# Altium footprint library Molex Footprints.PcbLib: 498 footprints (part 9 of 32)
Each footprint in its own frame and in the unit in brackets; x right, y up, seen from the top. Pads: shape width x height; smd on the part's side, far side on the other; paste and mask are expansions set on the pad; w line width, h text height; cw(c..) or ccw(c..) is an arc to the next point about the centre after c.
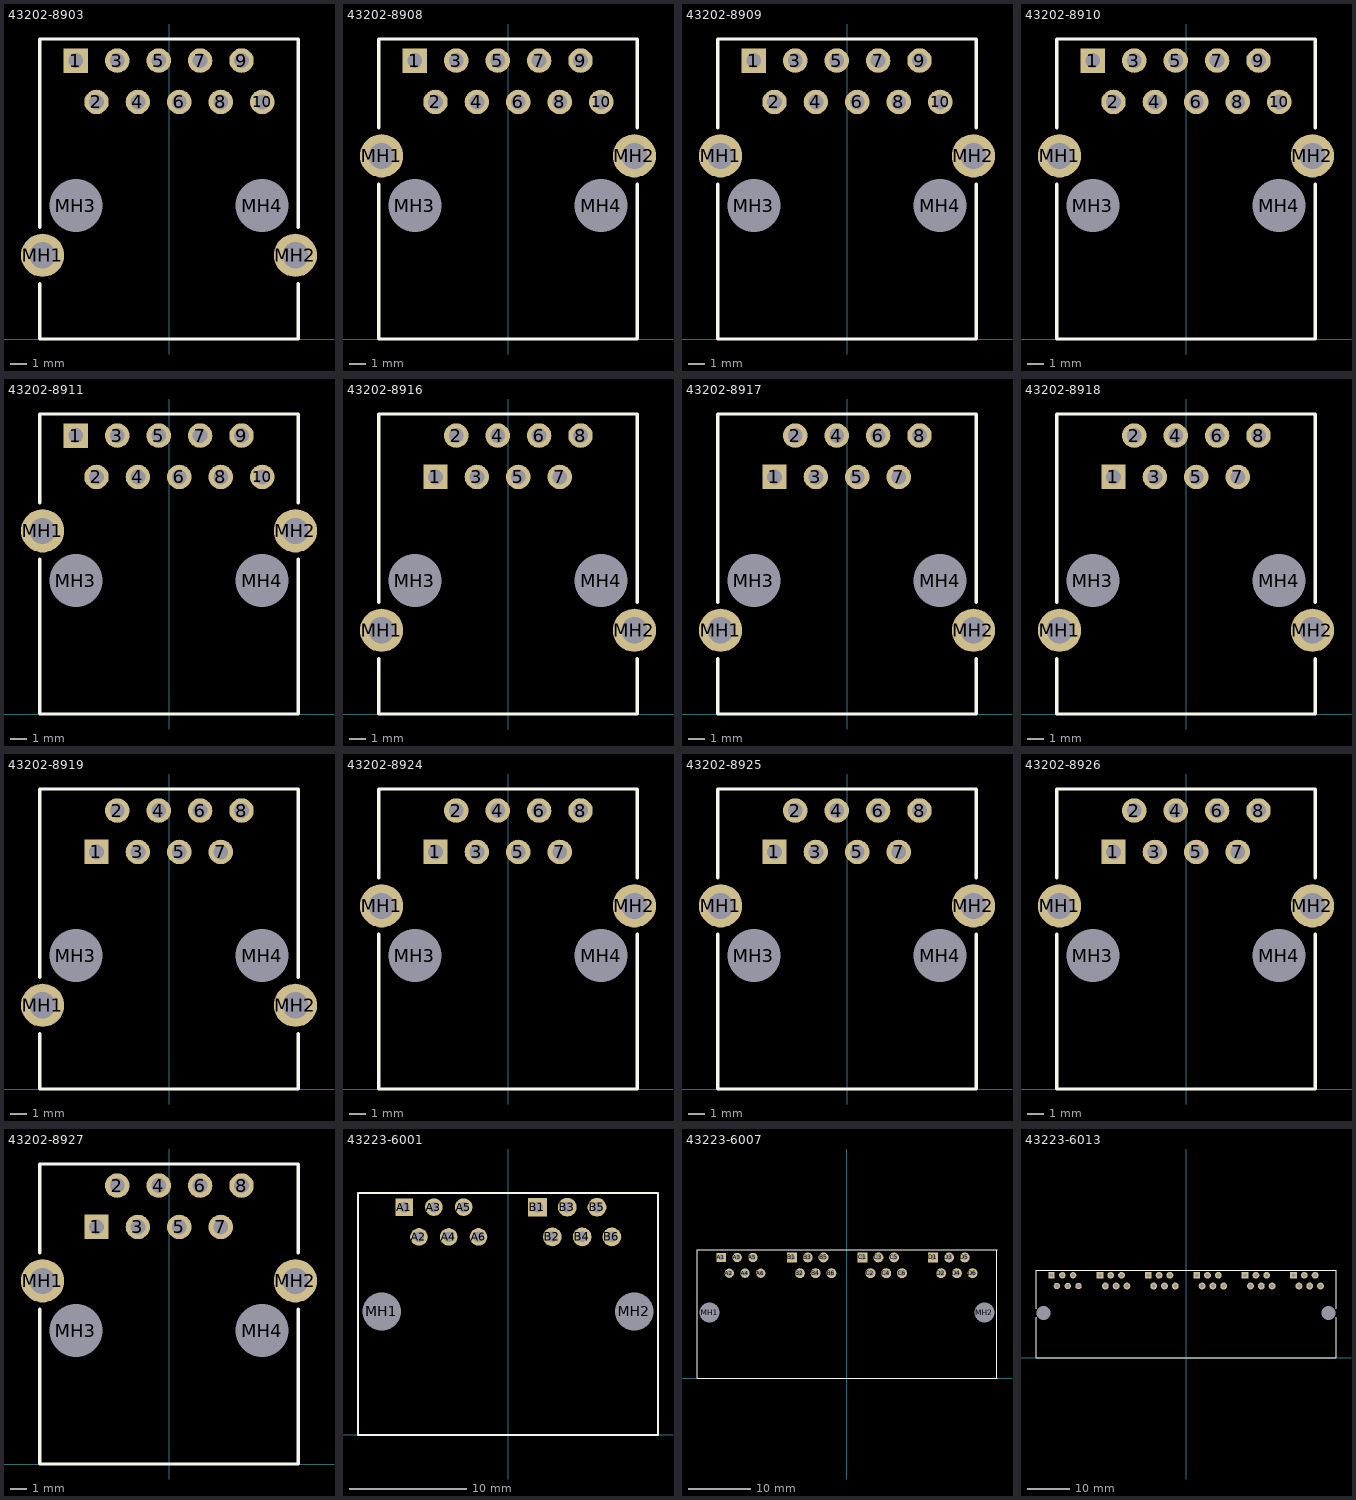
[diagram p8: the footprints below, top view; thin cyan lines are the x and y axes]

## 43202-8903 [mm] "Connector; PCB Jack, Thru-Hole; 1-Port, 8 Positions, 10 Loaded; Shielded without Lightpipes; Right Angle"
height 12.09
pads (14):
  rect 1.5x1.5 hole 0.9: 1(-5.715,17.069)
  round 1.5 hole 0.9: 2(-4.445,14.529) 3(-3.175,17.069) 4(-1.905,14.529) 5(-0.635,17.069) 6(0.635,14.529) 7(1.905,17.069) 8(3.175,14.529) 9(4.445,17.069) 10(5.715,14.529)
  round 2.65 hole 1.6: MH1(-7.747,5.131) MH2(7.747,5.131)
  round 2.95 hole 3.25 unplated: MH3(-5.715,8.179) MH4(5.715,8.179)
Top Overlay:
  lines w0.2: -7.925,3.407 -7.925,0 7.925,0 7.925,3.407 ; -7.925,6.855 -7.925,18.39 7.925,18.39 7.925,6.855

## 43202-8908 [mm] "Connector; PCB Jack, Thru-Hole; 1-Port, 8 Positions, 10 Loaded; Shielded without Lightpipes; Right Angle"
height 12.09
pads (14):
  rect 1.5x1.5 hole 0.9: 1(-5.715,17.069)
  round 1.5 hole 0.9: 2(-4.445,14.529) 3(-3.175,17.069) 4(-1.905,14.529) 5(-0.635,17.069) 6(0.635,14.529) 7(1.905,17.069) 8(3.175,14.529) 9(4.445,17.069) 10(5.715,14.529)
  round 2.65 hole 1.6: MH1(-7.747,11.227) MH2(7.747,11.227)
  round 2.95 hole 3.25 unplated: MH3(-5.715,8.179) MH4(5.715,8.179)
Top Overlay:
  lines w0.2: -7.925,9.503 -7.925,0 7.925,0 7.925,9.503 ; -7.925,12.951 -7.925,18.39 7.925,18.39 7.925,12.951

## 43202-8909 [mm] "Connector; PCB Jack, Thru-Hole; 1-Port, 8 Positions, 10 Loaded; Shielded without Lightpipes; Right Angle"
height 12.09
pads (14):
  rect 1.5x1.5 hole 0.9: 1(-5.715,17.069)
  round 1.5 hole 0.9: 2(-4.445,14.529) 3(-3.175,17.069) 4(-1.905,14.529) 5(-0.635,17.069) 6(0.635,14.529) 7(1.905,17.069) 8(3.175,14.529) 9(4.445,17.069) 10(5.715,14.529)
  round 2.65 hole 1.6: MH1(-7.747,11.227) MH2(7.747,11.227)
  round 2.95 hole 3.25 unplated: MH3(-5.715,8.179) MH4(5.715,8.179)
Top Overlay:
  lines w0.2: -7.925,9.503 -7.925,0 7.925,0 7.925,9.503 ; -7.925,12.951 -7.925,18.39 7.925,18.39 7.925,12.951

## 43202-8910 [mm] "Connector; PCB Jack, Thru-Hole; 1-Port, 8 Positions, 10 Loaded; Shielded without Lightpipes; Right Angle"
height 12.09
pads (14):
  rect 1.5x1.5 hole 0.9: 1(-5.715,17.069)
  round 1.5 hole 0.9: 2(-4.445,14.529) 3(-3.175,17.069) 4(-1.905,14.529) 5(-0.635,17.069) 6(0.635,14.529) 7(1.905,17.069) 8(3.175,14.529) 9(4.445,17.069) 10(5.715,14.529)
  round 2.65 hole 1.6: MH1(-7.747,11.227) MH2(7.747,11.227)
  round 2.95 hole 3.25 unplated: MH3(-5.715,8.179) MH4(5.715,8.179)
Top Overlay:
  lines w0.2: -7.925,9.503 -7.925,0 7.925,0 7.925,9.503 ; -7.925,12.951 -7.925,18.39 7.925,18.39 7.925,12.951

## 43202-8911 [mm] "Connector; PCB Jack, Thru-Hole; 1-Port, 8 Positions, 10 Loaded; Shielded without Lightpipes; Right Angle"
height 12.09
pads (14):
  rect 1.5x1.5 hole 0.9: 1(-5.715,17.069)
  round 1.5 hole 0.9: 2(-4.445,14.529) 3(-3.175,17.069) 4(-1.905,14.529) 5(-0.635,17.069) 6(0.635,14.529) 7(1.905,17.069) 8(3.175,14.529) 9(4.445,17.069) 10(5.715,14.529)
  round 2.65 hole 1.6: MH1(-7.747,11.227) MH2(7.747,11.227)
  round 2.95 hole 3.25 unplated: MH3(-5.715,8.179) MH4(5.715,8.179)
Top Overlay:
  lines w0.2: -7.925,9.503 -7.925,0 7.925,0 7.925,9.503 ; -7.925,12.951 -7.925,18.39 7.925,18.39 7.925,12.951

## 43202-8916 [mm] "Connector; PCB Jack, Thru-Hole; 1-Port, 8 Positions, 8 Loaded; Shielded without Lightpipes; Right Angle"
height 12.09
pads (12):
  rect 1.5x1.5 hole 0.9: 1(-4.445,14.529)
  round 1.5 hole 0.9: 2(-3.175,17.069) 3(-1.905,14.529) 4(-0.635,17.069) 5(0.635,14.529) 6(1.905,17.069) 7(3.175,14.529) 8(4.445,17.069)
  round 2.65 hole 1.6: MH1(-7.747,5.131) MH2(7.747,5.131)
  round 2.95 hole 3.25 unplated: MH3(-5.715,8.179) MH4(5.715,8.179)
Top Overlay:
  lines w0.2: -7.925,0 -7.925,3.407 ; -7.925,6.855 -7.925,18.39 7.925,18.39 7.925,6.855 ; -7.885,0 7.925,0 7.925,3.407

## 43202-8917 [mm] "Connector; PCB Jack, Thru-Hole; 1-Port, 8 Positions, 8 Loaded; Shielded without Lightpipes; Right Angle"
height 12.09
pads (12):
  rect 1.5x1.5 hole 0.9: 1(-4.445,14.529)
  round 1.5 hole 0.9: 2(-3.175,17.069) 3(-1.905,14.529) 4(-0.635,17.069) 5(0.635,14.529) 6(1.905,17.069) 7(3.175,14.529) 8(4.445,17.069)
  round 2.65 hole 1.6: MH1(-7.747,5.131) MH2(7.747,5.131)
  round 2.95 hole 3.25 unplated: MH3(-5.715,8.179) MH4(5.715,8.179)
Top Overlay:
  lines w0.2: -7.925,0 -7.925,3.407 ; -7.925,6.855 -7.925,18.39 7.925,18.39 7.925,6.855 ; -7.885,0 7.925,0 7.925,3.407

## 43202-8918 [mm] "Connector; PCB Jack, Thru-Hole; 1-Port, 8 Positions, 8 Loaded; Shielded without Lightpipes; Right Angle"
height 12.09
pads (12):
  rect 1.5x1.5 hole 0.9: 1(-4.445,14.529)
  round 1.5 hole 0.9: 2(-3.175,17.069) 3(-1.905,14.529) 4(-0.635,17.069) 5(0.635,14.529) 6(1.905,17.069) 7(3.175,14.529) 8(4.445,17.069)
  round 2.65 hole 1.6: MH1(-7.747,5.131) MH2(7.747,5.131)
  round 2.95 hole 3.25 unplated: MH3(-5.715,8.179) MH4(5.715,8.179)
Top Overlay:
  lines w0.2: -7.925,0 -7.925,3.407 ; -7.925,6.855 -7.925,18.39 7.925,18.39 7.925,6.855 ; -7.885,0 7.925,0 7.925,3.407

## 43202-8919 [mm] "Connector; PCB Jack, Thru-Hole; 1-Port, 8 Positions, 8 Loaded; Shielded without Lightpipes; Right Angle"
height 12.09
pads (12):
  rect 1.5x1.5 hole 0.9: 1(-4.445,14.529)
  round 1.5 hole 0.9: 2(-3.175,17.069) 3(-1.905,14.529) 4(-0.635,17.069) 5(0.635,14.529) 6(1.905,17.069) 7(3.175,14.529) 8(4.445,17.069)
  round 2.65 hole 1.6: MH1(-7.747,5.131) MH2(7.747,5.131)
  round 2.95 hole 3.25 unplated: MH3(-5.715,8.179) MH4(5.715,8.179)
Top Overlay:
  lines w0.2: -7.925,0 -7.925,3.407 ; -7.925,6.855 -7.925,18.39 7.925,18.39 7.925,6.855 ; -7.885,0 7.925,0 7.925,3.407

## 43202-8924 [mm] "Connector; PCB Jack, Thru-Hole; 1-Port, 8 Positions, 8 Loaded; Shielded without Lightpipes; Right Angle"
height 12.09
pads (12):
  rect 1.5x1.5 hole 0.9: 1(-4.445,14.529)
  round 1.5 hole 0.9: 2(-3.175,17.069) 3(-1.905,14.529) 4(-0.635,17.069) 5(0.635,14.529) 6(1.905,17.069) 7(3.175,14.529) 8(4.445,17.069)
  round 2.65 hole 1.6: MH1(-7.747,11.227) MH2(7.747,11.227)
  round 2.95 hole 3.25 unplated: MH3(-5.715,8.179) MH4(5.715,8.179)
Top Overlay:
  lines w0.2: -7.925,9.503 -7.925,0 7.925,0 7.925,9.503 ; -7.925,12.951 -7.925,18.39 7.925,18.39 7.925,12.951

## 43202-8925 [mm] "Connector; PCB Jack, Thru-Hole; 1-Port, 8 Positions, 8 Loaded; Shielded without Lightpipes; Right Angle"
height 12.09
pads (12):
  rect 1.5x1.5 hole 0.9: 1(-4.445,14.529)
  round 1.5 hole 0.9: 2(-3.175,17.069) 3(-1.905,14.529) 4(-0.635,17.069) 5(0.635,14.529) 6(1.905,17.069) 7(3.175,14.529) 8(4.445,17.069)
  round 2.65 hole 1.6: MH1(-7.747,11.227) MH2(7.747,11.227)
  round 2.95 hole 3.25 unplated: MH3(-5.715,8.179) MH4(5.715,8.179)
Top Overlay:
  lines w0.2: -7.925,9.503 -7.925,0 7.925,0 7.925,9.503 ; -7.925,12.951 -7.925,18.39 7.925,18.39 7.925,12.951

## 43202-8926 [mm] "Connector; PCB Jack, Thru-Hole; 1-Port, 8 Positions, 8 Loaded; Shielded without Lightpipes; Right Angle"
height 12.09
pads (12):
  rect 1.5x1.5 hole 0.9: 1(-4.445,14.529)
  round 1.5 hole 0.9: 2(-3.175,17.069) 3(-1.905,14.529) 4(-0.635,17.069) 5(0.635,14.529) 6(1.905,17.069) 7(3.175,14.529) 8(4.445,17.069)
  round 2.65 hole 1.6: MH1(-7.747,11.227) MH2(7.747,11.227)
  round 2.95 hole 3.25 unplated: MH3(-5.715,8.179) MH4(5.715,8.179)
Top Overlay:
  lines w0.2: -7.925,9.503 -7.925,0 7.925,0 7.925,9.503 ; -7.925,12.951 -7.925,18.39 7.925,18.39 7.925,12.951

## 43202-8927 [mm] "Connector; PCB Jack, Thru-Hole; 1-Port, 8 Positions, 8 Loaded; Shielded without Lightpipes; Right Angle"
height 12.09
pads (12):
  rect 1.5x1.5 hole 0.9: 1(-4.445,14.529)
  round 1.5 hole 0.9: 2(-3.175,17.069) 3(-1.905,14.529) 4(-0.635,17.069) 5(0.635,14.529) 6(1.905,17.069) 7(3.175,14.529) 8(4.445,17.069)
  round 2.65 hole 1.6: MH1(-7.747,11.227) MH2(7.747,11.227)
  round 2.95 hole 3.25 unplated: MH3(-5.715,8.179) MH4(5.715,8.179)
Top Overlay:
  lines w0.2: -7.925,9.503 -7.925,0 7.925,0 7.925,9.503 ; -7.925,12.951 -7.925,18.39 7.925,18.39 7.925,12.951

## 43223-6001 [mm] "Connector; PCB Jack, Thru-Hole; 2-Port, 6 Positions, 6 Loaded; Unshielded without Lightpipes; Right Angle"
height 12.83
pads (14):
  rect 1.5x1.5 hole 0.9: A1(-8.865,19.43)
  round 1.5 hole 0.9: A2(-7.595,16.89) A3(-6.325,19.43) A4(-5.055,16.89) A5(-3.785,19.43) A6(-2.515,16.89)
  rect 1.6x1.6 hole 0.9: B1(2.515,19.43)
  round 1.6 hole 0.9: B2(3.785,16.89) B3(5.055,19.43) B4(6.325,16.89) B5(7.595,19.43) B6(8.865,16.89)
  round 2.95 hole 3.25 unplated: MH1(-10.77,10.54) MH2(10.77,10.54)
Top Overlay:
  lines w0.2: -12.795,0 12.795,0 12.795,20.63 -12.795,20.63 -12.795,0

## 43223-6007 [mm] "Connector; PCB Jack, Thru-Hole; 4-Port, 6 Positions, 6 Loaded; Unshielded without Lightpipes; Right Angle"
height 12.83
pads (26):
  rect 1.5x1.5 hole 0.9: A1(-20.244,19.43)
  round 1.5 hole 0.9: A2(-18.974,16.89) A3(-17.704,19.43) A4(-16.434,16.89) A5(-15.164,19.43) A6(-13.894,16.89)
  rect 1.6x1.6 hole 0.9: B1(-8.865,19.43) C1(2.515,19.43) D1(13.894,19.43)
  round 1.6 hole 0.9: B2(-7.595,16.89) B3(-6.325,19.43) B4(-5.055,16.89) B5(-3.785,19.43) B6(-2.515,16.89) C2(3.785,16.89) C3(5.055,19.43) C4(6.325,16.89) C5(7.595,19.43) C6(8.865,16.89) D2(15.164,16.89) D3(16.434,19.43) D4(17.704,16.89) D5(18.974,19.43) D6(20.244,16.89)
  round 2.95 hole 3.25 unplated: MH1(-22.149,10.54) MH2(22.149,10.54)
Top Overlay:
  lines w0.2: -24.174,0 24.174,0 24.174,20.63 -24.174,20.63 -24.174,0

## 43223-6013 [mm] "Connector; PCB Jack, Thru-Hole; 6-Port, 6 Positions, 6 Loaded; Unshielded without Lightpipes; Right Angle"
height 12.83
pads (38):
  rect 1.5x1.5 hole 0.9: A1(-31.623,19.43)
  round 1.5 hole 0.9: A2(-30.353,16.89) A3(-29.083,19.43) A4(-27.813,16.89) A5(-26.543,19.43) A6(-25.273,16.89)
  rect 1.6x1.6 hole 0.9: B1(-20.244,19.43) C1(-8.865,19.43) D1(2.515,19.43) E1(13.894,19.43) F1(25.273,19.43)
  round 1.6 hole 0.9: B2(-18.974,16.89) B3(-17.704,19.43) B4(-16.434,16.89) B5(-15.164,19.43) B6(-13.894,16.89) C2(-7.595,16.89) C3(-6.325,19.43) C4(-5.055,16.89) C5(-3.785,19.43) C6(-2.515,16.89) D2(3.785,16.89) D3(5.055,19.43) D4(6.325,16.89) D5(7.595,19.43) D6(8.865,16.89) E2(15.164,16.89) E3(16.434,19.43) E4(17.704,16.89) E5(18.974,19.43) E6(20.244,16.89) F2(26.543,16.89) F3(27.813,19.43) F4(29.083,16.89) F5(30.353,19.43) F6(31.623,16.89)
  round 2.95 hole 3.25 unplated: MH1(-33.528,10.54) MH2(33.528,10.54)
Top Overlay:
  lines w0.2: -35.271,9.509 -35.271,0 35.269,0 ; -35.271,11.571 -35.271,20.63 35.269,20.63 ; 35.271,0 35.271,9.509 ; 35.271,11.571 35.271,20.63